# EAGLE library part IF_ETH_PHY_RTL8211F (library !GPLIB_ACTIVE)
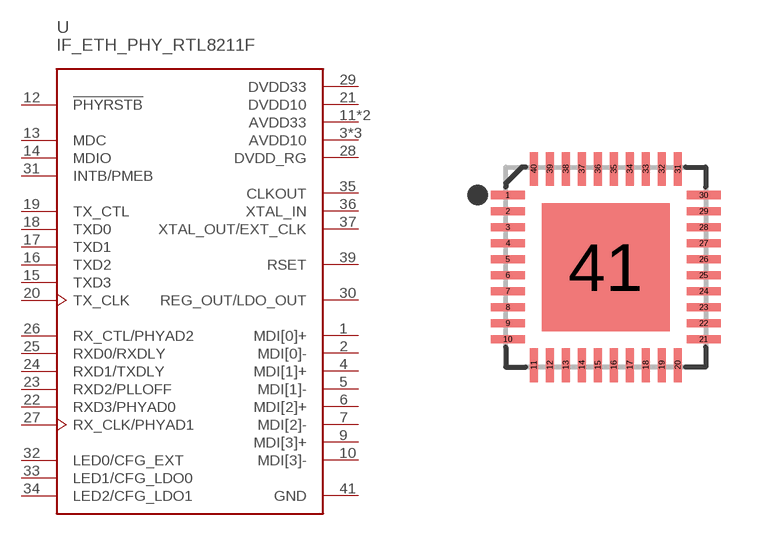
[diagram p22: symbol with the pads of QFN40P500X500X75-41N; footprint QFN40P500X500X75-41N]

Designator prefix U

## IF_ETH_PHY_RTL8211F_RTL8211F-CG  [QFN40P500X500X75-41N]
1  MDI[0]+  out
2  MDI[0]-  out
3  AVDD10  pwr
4  MDI[1]+  out
5  MDI[1]-  out
6  MDI[2]+  out
7  MDI[2]-  out
8  AVDD10  pwr
9  MDI[3]+  out
10  MDI[3]-  out
11  AVDD33  pwr
12  !PHYRSTB  in
13  MDC  in
14  MDIO
15  TXD3  in
16  TXD2  in
17  TXD1  in
18  TXD0  in
19  TX_CTL  in
20  TX_CLK  in
21  DVDD10  pwr
22  RXD3/PHYAD0
23  RXD2/PLLOFF
24  RXD1/TXDLY
25  RXD0/RXDLY
26  RX_CTL/PHYAD2  in
27  RX_CLK/PHYAD1
28  DVDD_RG  out
29  DVDD33  out
30  REG_OUT/LDO_OUT  out
31  INTB/PMEB
32  LED0/CFG_EXT
33  LED1/CFG_LDO0
34  LED2/CFG_LDO1
35  CLKOUT  out
36  XTAL_IN  in
37  XTAL_OUT/EXT_CLK  out
38  AVDD10  pwr
39  RSET  out
40  AVDD33  pwr
41  GND  pwr

## Footprint QFN40P500X500X75-41N (pad centres in mm)
smd 0.85 x 0.2: 1 -2.45,1.8; 2 -2.45,1.4; 3 -2.45,1; 4 -2.45,0.6; 5 -2.45,0.2; 6 -2.45,-0.2; 7 -2.45,-0.6; 8 -2.45,-1; 9 -2.45,-1.4; 10 -2.45,-1.8; 21 2.45,-1.8; 22 2.45,-1.4; 23 2.45,-1; 24 2.45,-0.6; 25 2.45,-0.2; 26 2.45,0.2; 27 2.45,0.6; 28 2.45,1; 29 2.45,1.4; 30 2.45,1.8
smd 0.2 x 0.85: 11 -1.8,-2.45; 12 -1.4,-2.45; 13 -1,-2.45; 14 -0.6,-2.45; 15 -0.2,-2.45; 16 0.2,-2.45; 17 0.6,-2.45; 18 1,-2.45; 19 1.4,-2.45; 20 1.8,-2.45; 31 1.8,2.45; 32 1.4,2.45; 33 1,2.45; 34 0.6,2.45; 35 0.2,2.45; 36 -0.2,2.45; 37 -0.6,2.45; 38 -1,2.45; 39 -1.4,2.45; 40 -1.8,2.45
smd 3.2 x 3.2: 41 0,0